# Altium schematic symbol library MIC2289.SchLib: 1 symbol
Pins are listed as number, name and electrical type; pins without a type are passive.

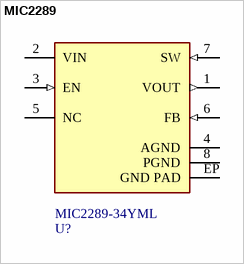
[diagram p0: symbol MIC2289]

## MIC2289
designator U?  Part Number: MIC2289-34YML
IC LED Driver IC 1 Output DC DC Regulator Step-Up (Boost) Analog, PWM Dimming 750mA (Switch) 8-MLF® (2x2); Manufacturer: Microchip; Mfg Package Ident: ML; Voltage - Output: 34V; Voltage - Supply: 2.5V ~ 10V; helpURL: https://upverter.com/upn/revision/081cbec266e60c90/; ComponentLink2Description: Datasheet; Temperature: -40°C to +125°C; Package: ML; Supplier 2: Mouser; Supplier 1: Digi-Key; ComponentLink1URL: https://upverter.com/upn/revision/081cbec266e60c90/; Supplier Part Number 2: 998-MIC2289-34YMLTR; Supplier Part Number 1: 576-1732-1-ND; ComponentLink1Description: Upverter; ComponentLink2URL: http://ww1.microchip.com/downloads/en/DeviceDoc/mic2289.pdf; RoHS: TRUE; Mouser Part Number: 998-MIC2289-34YMLTR; Ipc Land Pattern Name: DFN200X200X85-8; Temperature Range High: +125°C; Digikey Description: IC LED Driver IC 1 Output DC DC Regulator Step-Up (Boost) Analog, PWM Dimming 750mA (Switch) 8-MLF® (2x2); Digikey Part Number: 576-1732-1-ND; Current - Output / Channel: 750mA; Lead Free: yes; Temperature Range Low: -40°C
footprint MIC2289
pins: 1 VOUT (out), 2 VIN (power), 3 EN (in), 4 AGND (power), 5 NC, 6 FB (in), 7 SW (in), 8 PGND (power), EP GND PAD (power)